# Altium schematic symbol library L298N.SchLib: 1 symbol
Pins are listed as number, name and electrical type; pins without a type are passive.

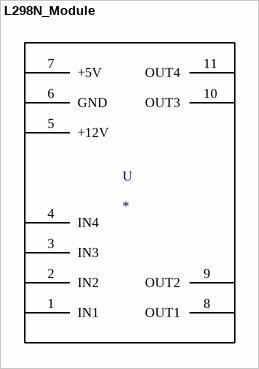
[diagram p0: symbol L298N_Module]

## L298N_Module
designator U
pins: 1 IN1, 2 IN2, 3 IN3, 4 IN4, 5 +12V, 6 GND, 7 +5V, 8 OUT1, 9 OUT2, 10 OUT3, 11 OUT4